# Altium footprint library PWR_JACK_SW_HDR.PcbLib: 1 footprints
Each footprint in its own frame and in the unit in brackets; x right, y up, seen from the top. Pads: shape width x height; smd on the part's side, far side on the other; paste and mask are expansions set on the pad; w line width, h text height; cw(c..) or ccw(c..) is an arc to the next point about the centre after c.
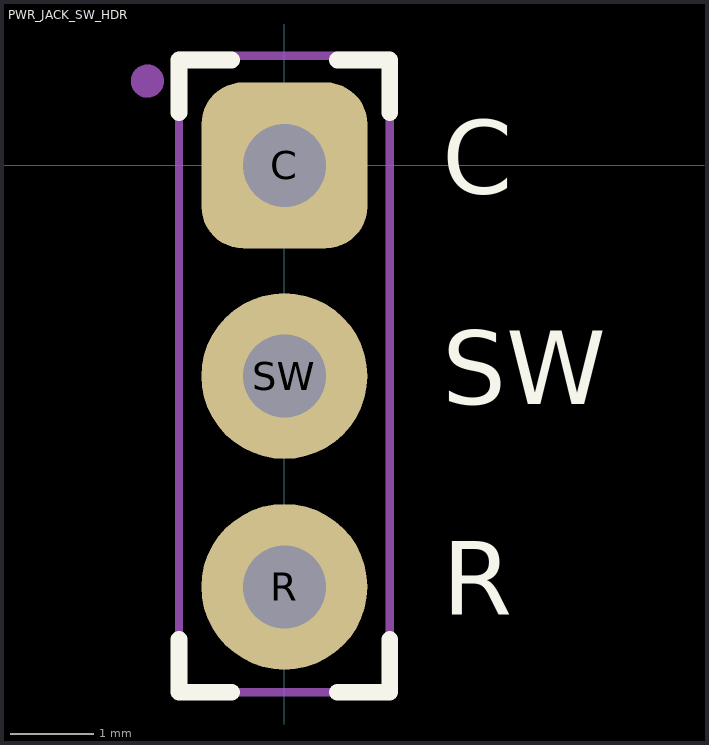
[diagram p0: the footprint, top view; thin cyan lines are the x and y axes]

## PWR_JACK_SW_HDR [mm] "DC Power Jack Connector with Switch, Header Connection"
height 1
pads (3):
  rrect50% 2x2 / inner round 2 / far side rrect50% 2x2 hole 1: C(0,0)
  round 2 hole 1: R(0,-5.08) SW(0,-2.54)
Top Overlay:
  lines w0.2: -1.27,-5.715 -1.27,-6.35 -0.635,-6.35 ; -1.27,0.635 -1.27,1.27 -0.635,1.27 ; 0.635,-6.35 1.27,-6.35 1.27,-5.715 ; 0.635,1.27 1.27,1.27 1.27,0.635
  text "R" at 1.905,-5.715 h1.52
  text "C" at 1.905,-0.635 h1.52
  text "SW" at 1.905,-3.175 h1.52
Mechanical 15:
  circle w0.2: c-1.651,1.016 r0.1
  lines w0.1: -1.27,-6.35 1.27,-6.35 1.27,1.32 -1.27,1.32 -1.27,-6.35
  text ".Designator" at -0.127,-0.508 h1